# Altium footprint library Button-30x40-2P.PcbLib: 1 footprints
Each footprint in its own frame and in the unit in brackets; x right, y up, seen from the top. Pads: shape width x height; smd on the part's side, far side on the other; paste and mask are expansions set on the pad; w line width, h text height; cw(c..) or ccw(c..) is an arc to the next point about the centre after c.
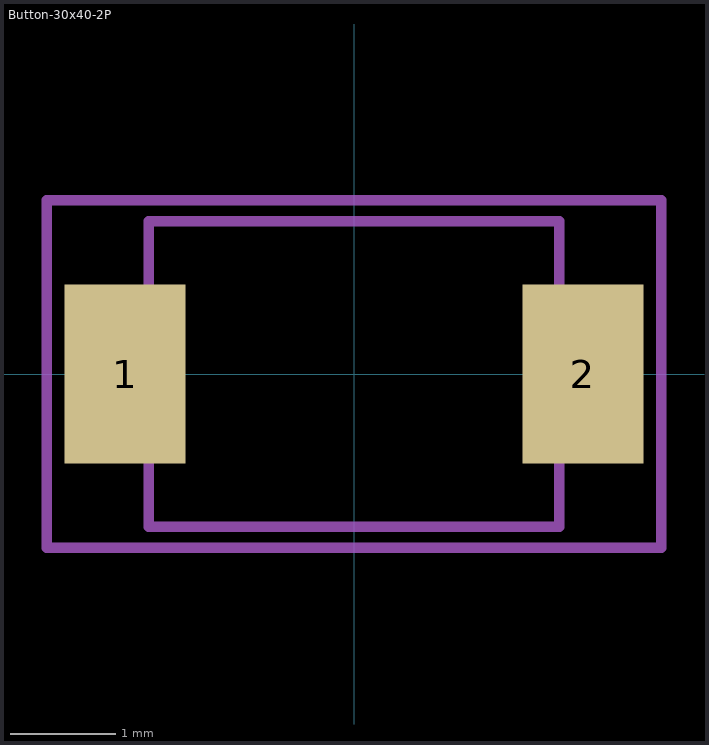
[diagram p0: the footprint, top view; thin cyan lines are the x and y axes]

## Button-30x40-2P [mm]
height 1
pads (2):
  rect 1.15x1.7 smd: 1(-2.175,0) 2(2.175,0)
Mechanical 13:
  lines w0.1: -1.95,-1.45 -1.95,1.45 1.95,1.45 1.95,-1.45 -1.95,-1.45
Mechanical 15:
  lines w0.1: -2.921,-1.651 -2.921,1.651 2.921,1.651 2.921,-1.651 -2.921,-1.651
3D body: height 1.9, standoff 0, extent -2.5,-1.5 2.5,1.5